# Altium footprint library USB_MINI5PIN.PcbLib: 1 footprints
Each footprint in its own frame and in the unit in brackets; x right, y up, seen from the top. Pads: shape width x height; smd on the part's side, far side on the other; paste and mask are expansions set on the pad; w line width, h text height; cw(c..) or ccw(c..) is an arc to the next point about the centre after c.
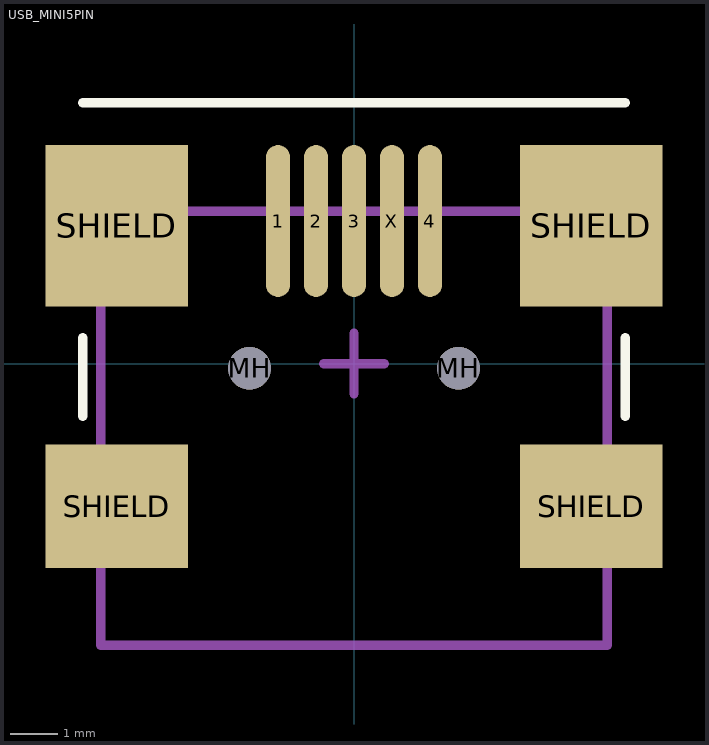
[diagram p0: the footprint, top view; thin cyan lines are the x and y axes]

## USB_MINI5PIN [mm]
pads (11):
  oval 0.5x3.2 smd: 1(-1.6,3) 2(-0.8,3) 3(0,3) 4(1.6,3) X(0.8,3)
  round 0.9 hole 0.9 unplated: MH(-2.2,-0.1) MH(2.2,-0.1)
  rect 3x2.6 smd: SHIELD(-5,-3) SHIELD(5,-3)
  rect 3x3.4 smd: SHIELD(-5,2.9) SHIELD(5,2.9)
Top Overlay:
  lines w0.2: -5.715,-1.109 -5.715,0.542 ; -5.715,5.495 5.715,5.495 ; 5.715,-1.109 5.715,0.542
Mechanical 13:
  lines w0.2: -5.334,-5.935 -5.334,3.209 5.334,3.209 5.334,-5.935 -5.334,-5.935
  text ".Designator" at -2.794,-2.887 h1.52
Mechanical 15:
  lines w0.2: -0.635,0 0.635,0 ; 0,-0.635 0,0.635
3D body: height 3.95, standoff -1, extent -5.35,-5.973 5.35,3.227